# EAGLE library part AS-ITM-00310 (library tinycircuits)
LED Driver IC 1 Output DC DC Regulator Step-Up (Boost)
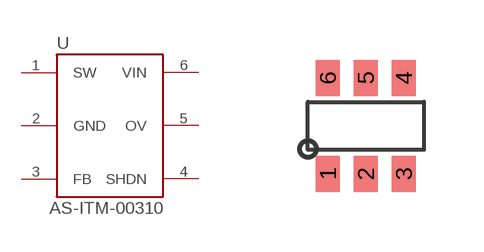
[diagram p123: symbol with the pads of SOT-23-6; footprint SOT-23-6]

Designator prefix U

## AS-ITM-00310 (PARTNO: AS-ITM-00310; PNPROTATION: 270; VALUE: AP3032)  [SOT-23-6]
1  SW
2  GND
3  FB
4  SHDN
5  OV
6  VIN

## Footprint SOT-23-6 (pad centres in mm)
smd 0.6 x 0.9: 1 -0.95,-1.2; 2 0,-1.2; 3 0.95,-1.2; 4 0.95,1.2; 5 0,1.2; 6 -0.95,1.2